# Altium footprint library PCB - IND - NR5040T100M.PcbLib: 1 footprints
Each footprint in its own frame and in the unit in brackets; x right, y up, seen from the top. Pads: shape width x height; smd on the part's side, far side on the other; paste and mask are expansions set on the pad; w line width, h text height; cw(c..) or ccw(c..) is an arc to the next point about the centre after c.
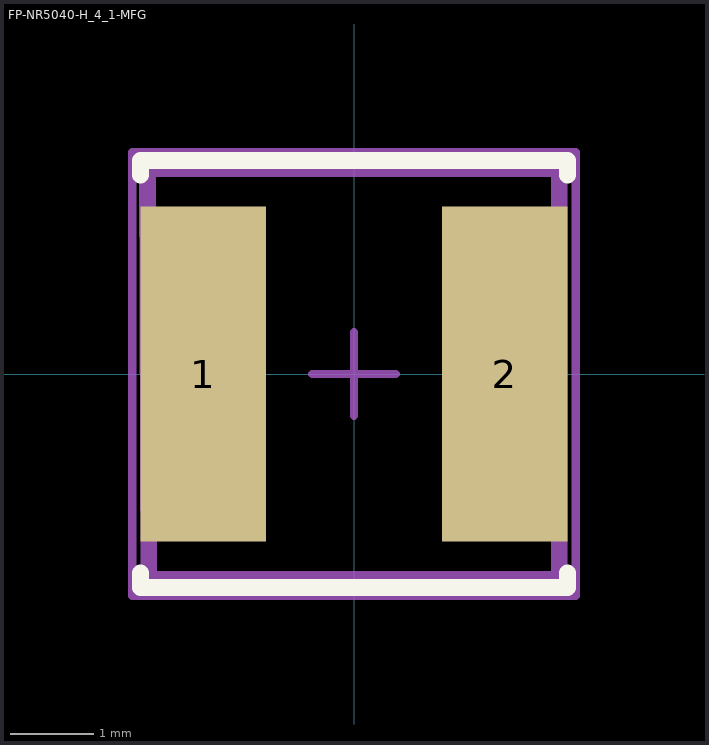
[diagram p0: the footprint, top view; thin cyan lines are the x and y axes]

## FP-NR5040-H_4_1-MFG [mm]
pads (2):
  rect 1.5x4 smd paste+0 mask+0: 1(-1.8,0) 2(1.8,0)
Top Overlay:
  lines w0.2: -2.55,-2.375 -2.55,-2.55 2.55,-2.55 2.55,-2.375 ; -2.55,2.375 -2.55,2.55 2.55,2.55 2.55,2.375
Top Assembly:
  lines w0.2: -2.465,2.45 -2.45,-2.45 2.45,-2.45 2.45,2.45 -2.45,2.45
Top Courtyard:
  lines w0.1: -2.65,-2.65 2.65,-2.65 2.65,2.65 -2.65,2.65 -2.65,-2.65
Top Designator:
  text ".Designator" at 0,0.188 h1
Top Component Center:
  lines w0.1: -0.5,0 0.5,0 ; 0,-0.5 0,0.5
Top Value (Mech13):
  text ".Value" at 0,-0.879 h1
3D body "Ind_Taiyo_Yuden_NR5040T1R5N_eec.STEP": height 4.1, standoff 0, extent -2.45,-2.45 2.45,2.45